# EAGLE library part MOSFET-PCHANNEL-D4 (library WSNlib)
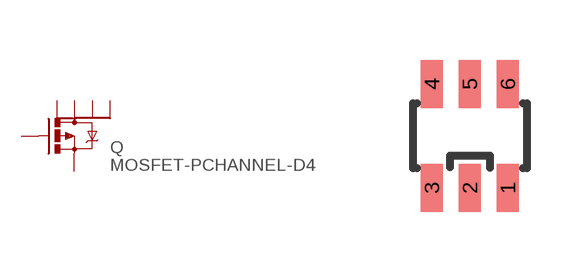
[diagram p10: symbol with the pads of SOT23-6; footprint SOT23-6]

Designator prefix Q

## MOSFET-PCHANNEL-D4  [SOT23-6]
1  D  pas
2  D1  pas
3  G  pas
4  S  pas
5  D3  pas
6  D2  pas

## Footprint SOT23-6 (pad centres in mm)
smd 0.55 x 1.2: 1 0.95,-1.3; 2 0,-1.3; 3 -0.95,-1.3; 4 -0.95,1.3; 5 0,1.3; 6 0.95,1.3